# Altium schematic symbol library LM3485MM_NOPB.SchLib: 1 symbol
Pins are listed as number, name and electrical type; pins without a type are passive.

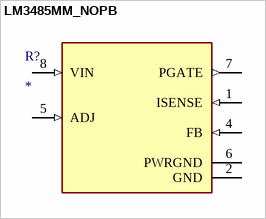
[diagram p0: symbol LM3485MM_NOPB]

## LM3485MM_NOPB
designator R?
Value: *
pins: 1 ISENSE (in), 2 GND (power), 4 FB (in), 5 ADJ (in), 6 PWRGND (power), 7 PGATE (out), 8 VIN (in)